# Altium integrated library ADE7953.IntLib: 1 symbol
Pins are listed as number, name and electrical type; pins without a type are passive.

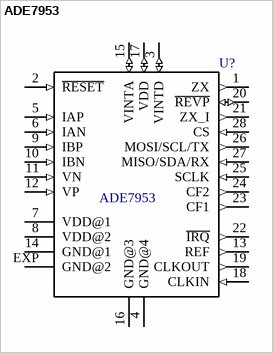
[diagram p0: symbol ADE7953]

## ADE7953
designator U?
MF: Analog Devices; Availability: Unavailable; Price: None; MP: ADE7953; Package: None; SnapEDA_Link: https://www.snapeda.com/parts/ADE7953/Analog%20Devices/view-part/?ref=snap; Value: *
footprint *LFCSP28_ADE7953(Primary)
pins: 1 ZX (out), 2 ~{RESET} (in), 3 VINTD (io), 4 GND@4 (power), 5 IAP (in), 6 IAN (in), 7 VDD@1 (power), 8 VDD@2 (power), 9 IBP (in), 10 IBN (in), 11 VN (in), 12 VP (in), 13 REF (out), 14 GND@1 (power), 15 VINTA (io), 16 GND@3 (power), 17 VDD (io), 18 CLKIN (in), 19 CLKOUT (out), 20 ~{REVP} (io), 21 ZX_I (out), 22 ~{IRQ} (out), 23 CF1 (out), 24 CF2 (out), 25 SCLK (in), 26 MOSI/SCL/TX (out), 27 MISO/SDA/RX (in), 28 CS (in), EXP GND@2 (power)